# Altium schematic symbol library SEMATIK_LIB.SchLib: 632 symbols (part 14 of 21)
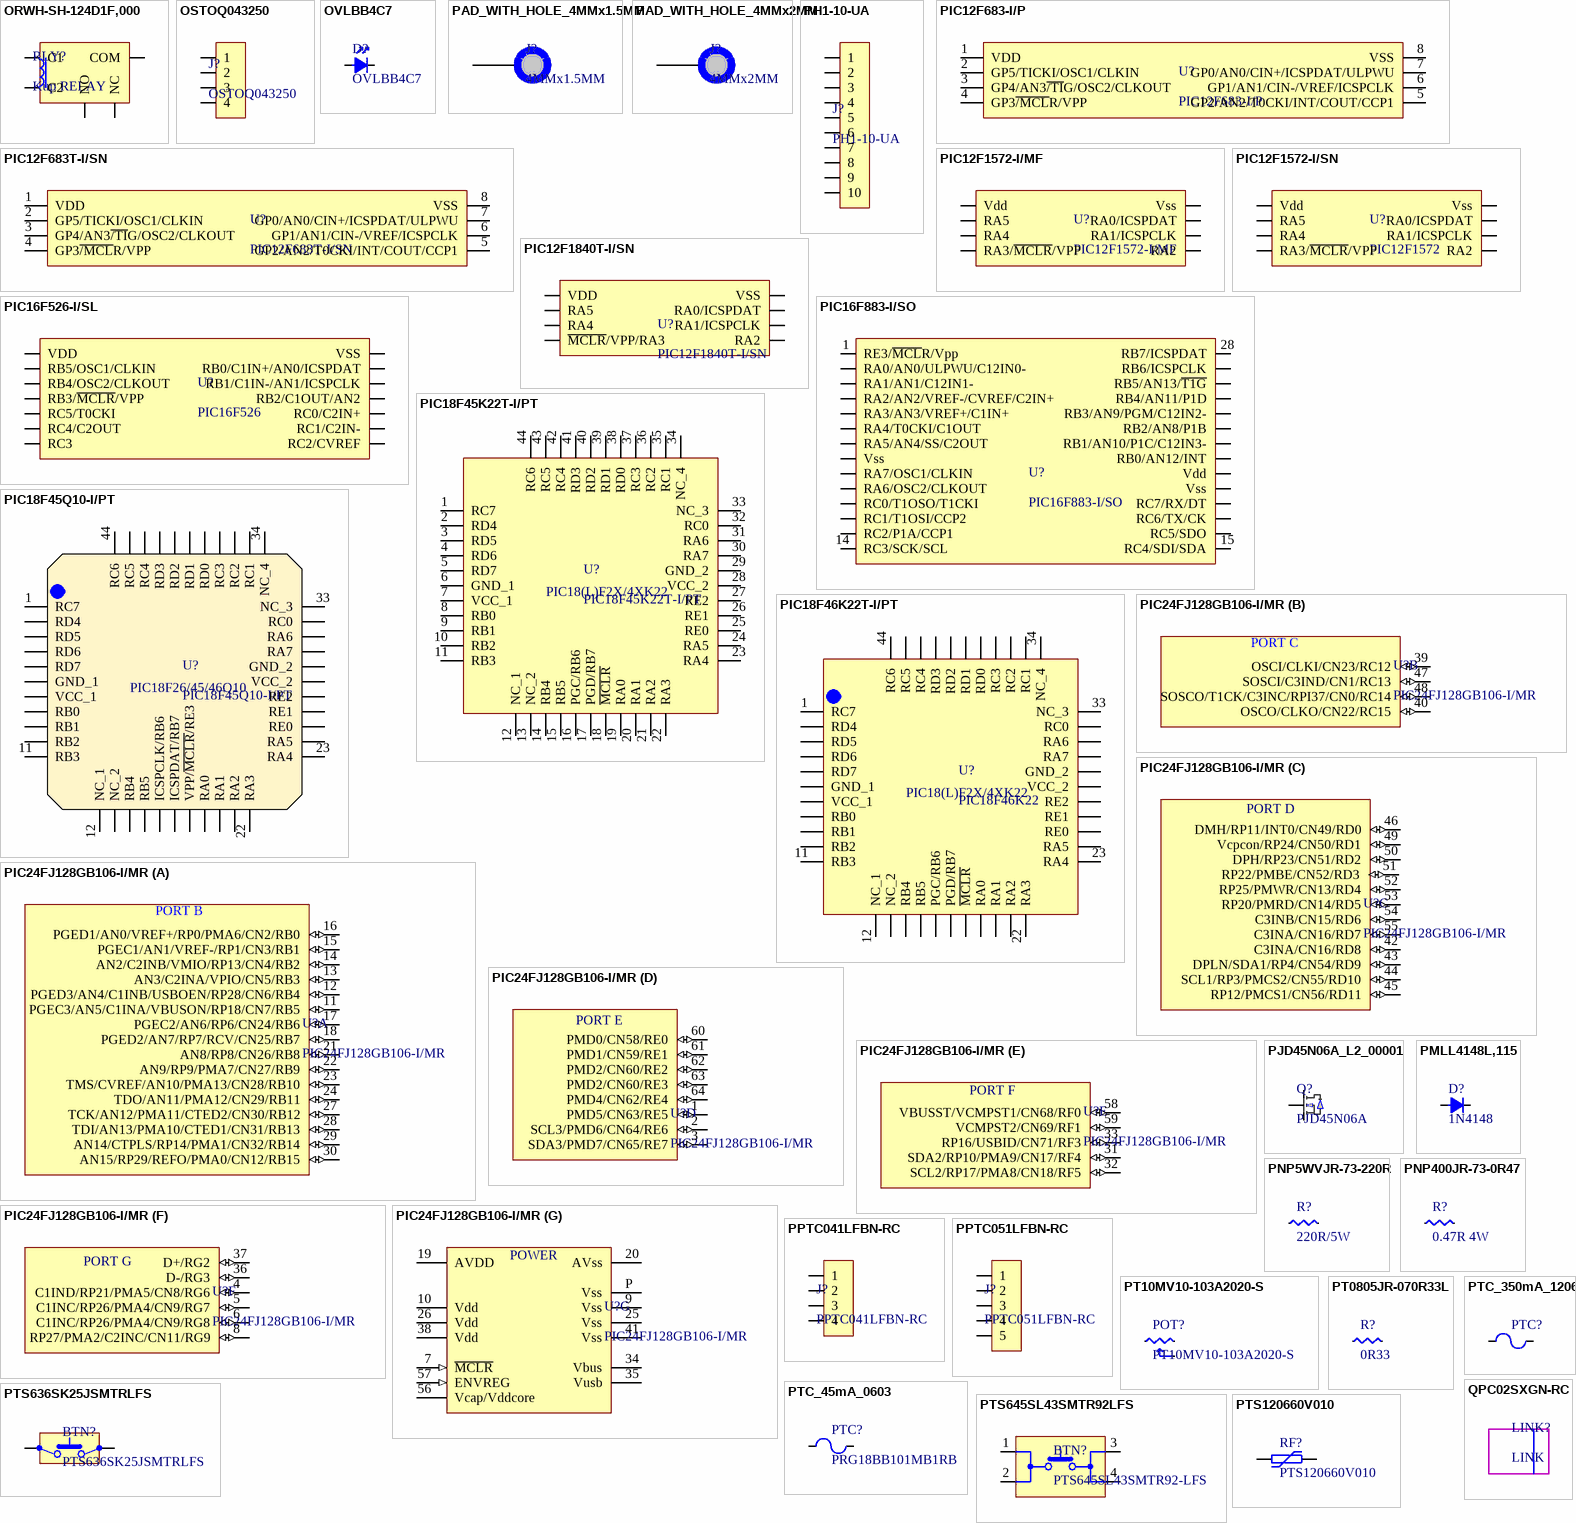
[diagram p29: symbols ORWH-SH-124D1F,000 to QPC02SXGN-RC]

## PTC_350mA_1206
designator PTC?, comment 0ZCJ0035FF2G  (value not drawn)
PTC RESET FUSE 16V 350MA 1206; Manufacturer: Bel Fuse Inc.; Approvals: cURus, TUV; Supplier 1: Digi-Key; Manufacturer Part Number: 0ZCJ0035FF2G; RoHS: RoHS Compliant; Category: Circuit Protection; Stock 1: 71744; Pricing 1: 1=0.13, 5=0.13, 10=0.125, 50=0.1114, 100=0.1037, 250=0.09216, 500=0.0768, 1000=0.07296 (USD); Packaging: Cut Tape (CT); Part Status: Active; Type: Polymeric; Voltage - Max: 16V; Operating Temperature: -40°C ~ 85°C; Ratings: -; Mounting Type: Surface Mount; Package / Case: 1206 (3216 Metric), Concave; Size / Dimension: 0.128" L x 0.065" W (3.25mm x 1.65mm); Height - Seated (Max): -; Thickness (Max): 0.030" (0.75mm); Lead Spacing: -; ComponentLink1URL: https://www.belfuse.com/resources/CircuitProtection/datasheets/0ZCJ%20Nov2016.pdf; ComponentLink1Description: https://www.belfuse.com/resources/CircuitProtection/datasheets/0ZCJ%20Nov2016.pdf; Supplier Part Number 1: 507-1800-1-ND
footprint PTC_1206
pins: 1, 2

## PTS636SK25JSMTRLFS
designator BTN?
SWITCH TACTILE SPST-NO 2.5mm 6.0x3.5 250gf; Manufacturer: ITT C&K; Supplier 1: Digi-Key; Manufacturer Part Number: PTS636SK25JSMTRLFS; Stock 1: 0; RoHS: No; Supplier Part Number 1: CKN12326-6-ND
footprint Tact_Switch_smd_6x3.5x2.5
pins: 1, 2

## PTS645SL43SMTR92LFS
designator BTN?, comment PTS645SL43SMTR92-LFS
Switch Tactile N.O. SPST Round Button Gull Wing 0.05A 12VDC 100000Cycles 1.27N SMD T/R; Manufacturer 1: ITT C&K; Manufacturer Part Number 1: PTS645SL43SMTR92LFS; Actuator Material: Nylon,Polyamide; Max Voltage Rating (DC): 12V; Contact Resistance: 100mR; Max Current Rating: 50mA; Illumination Type: Non-Illuminated; Switch Function: Off-Mom; Actuator Type: Standard; Actuator Length: 0.85mm; Supplier 1: Digi-Key; Description 1: Switch Tactile N.O. SPST Round Button Gull Wing 0.05A 12VDC 100000Cycles 1.27N SMD T/R; Stock 1: 4489; Pricing 1: 1=0.31, 10=0.3, 25=0.29, 50=0.2796, 100=0.2641, 250=0.2486, 500=0.23822 (USD); Mount: Surface Mount; Contact Material: Bronze,Brass,Silver; Contact Plating: Silver; Mechanical Life: 100000Cycles; Color: Black; Min Operating Temperature: -20°C; Max Operating Temperature: 60°C; Throw Configuration: SPST; Operating Force: 1.27N; Packaging: Tape and Reel; Termination: Gull Wing; Voltage Rating (DC): 12V; Package Quantity: 1000; Current Rating: 50mA; Orientation: Straight; Length: 6mm; Depth: 9mm; Lead Free: Lead Free; ComponentLink1URL: https://www.verical.com/server-webapp/html/getDatasheet?partID=774114&src-supplier=Verical; ComponentLink1Description: https://www.verical.com/server-webapp/html/getDatasheet?partID=774114&src-supplier=Verical; Supplier Part Number 1: CKN10880CT-ND
footprint Tact_Switch_smd_6x6x4.3mm
footprint Tact_Switch_smd_(6x6x4.3mm)+(12x12x4.3mm)
pins: 1, 2, 3, 4

## PTS120660V010
designator RF?
PTC RESET FUSE 60V 100MA 1206; Manufacturer: Eaton; Approvals: TUV, cULus; Max Current Rating: 100A; Power Dissipation: 400mW; Value: 15Ω; Time to Trip: 1s; Trip Current: 250mA; Supplier: Farnell; Supplier Part Number: 4004084; Manufacturer Part Number: PTS120660V010; RoHS: Compliant; Category: PTC Resettable Fuses; Stock: 4467; Pricing: 1=0,351, 10=0,331, 25=0,309, 50=0,3, 100=0,282, 250=0,256, 500=0,222, 1000=0,212 (EUR); Case/Package: 1206; Case Code (Imperial): 1206; Case Code (Metric): 3216; Current Rating: 100mA; Height: 900µm; Hold Current: 100mA; Length: 3.5mm; Lifecycle Status: Production; Max Operating Temperature: 85°C; Max Supply Voltage (DC): 60V; Max Voltage Rating (DC): 60V; Min Operating Temperature: -40°C; Mounting Technology: Surface Mount; Number of Terminals: 2; Operating Supply Voltage: 60V; Packaging: Cut Tape; Radiation Hardening: No; REACH SVHC: Yes; Schedule B: 8536100040, 8536100040|8536100040|8536100040|8536100040|8536100040; Termination: SMD/SMT; Voltage Rating (DC): 60V; Weight: 453.59237mg; Width: 1.8mm; ComponentLink1URL: https://datasheet.octopart.com:443/PTS120660V010-Cooper-Bussmann-datasheet-155829713.pdf?src-supplier=IHS; ComponentLink1Description: https://datasheet.octopart.com:443/PTS120660V010-Cooper-Bussmann-datasheet-155829713.pdf?src-supplier=IHS; ComponentLink2URL: https://datasheet.octopart.com:443/PTS120660V010-Eaton-datasheet-83967986.pdf?src-supplier=Farnell; ComponentLink2Description: https://datasheet.octopart.com:443/PTS120660V010-Eaton-datasheet-83967986.pdf?src-supplier=Farnell; ComponentLink3URL: https://datasheet.octopart.com:443/PTS120660V010-Eaton-datasheet-137317964.pdf?src-supplier=Sager+Electronics; ComponentLink3Description: https://datasheet.octopart.com:443/PTS120660V010-Eaton-datasheet-137317964.pdf?src-supplier=Sager+Electronics; ComponentLink4URL: https://datasheet.octopart.com:443/PTS120660V010-Eaton-datasheet-11745732.pdf?src-supplier=Electro+Sonic; ComponentLink4Description: https://datasheet.octopart.com:443/PTS120660V010-Eaton-datasheet-11745732.pdf?src-supplier=Electro+Sonic; ComponentLink5URL: https://datasheet.octopart.com:443/PTS120660V010-Eaton-datasheet-188866676.pdf?src-supplier=TME; ComponentLink5Description: https://datasheet.octopart.com:443/PTS120660V010-Eaton-datasheet-188866676.pdf?src-supplier=TME; ComponentLink6URL: https://datasheet.octopart.com:443/PTS120660V010-Cooper-datasheet-12529620.pdf?src-supplier=Newark; ComponentLink6Description: https://datasheet.octopart.com:443/PTS120660V010-Cooper-datasheet-12529620.pdf?src-supplier=Newark
footprint PTC_1206
pins: 1, 2

## QPC02SXGN-RC
designator LINK?, comment LINK  (mechanical)
CONN JUMPER SHORTING .100" GOLD; Manufacturer: Sullins Connector Solutions; Manufacturer Part Number: QPC02SXGN-RC; Gender: Female Sockets; Number of Positions or Pins (Grid): 2 (1 x 2); Pitch: 0.100" (2.54mm); Supplier 1: Digi-Key; RoHS: RoHS Compliant; Category: Connectors, Interconnects; Stock 1: 156596; Pricing 1: 1=0.1, 10=0.059, 25=0.044, 50=0.0378, 100=0.0365, 250=0.03152, 500=0.03024, 1000=0.02646, 2500=0.02394 (USD); Packaging: Bulk; Part Status: Active; Type: Open Top; Height: 0.235" (5.97mm); Contact Finish: Gold; Contact Finish Thickness: Flash; Color: Black; ComponentLink1URL: http://www.sullinscorp.com/drawings/284_SXGN_11510.pdf; ComponentLink1Description: http://www.sullinscorp.com/drawings/284_SXGN_11510.pdf; Supplier Part Number 1: S9337-ND

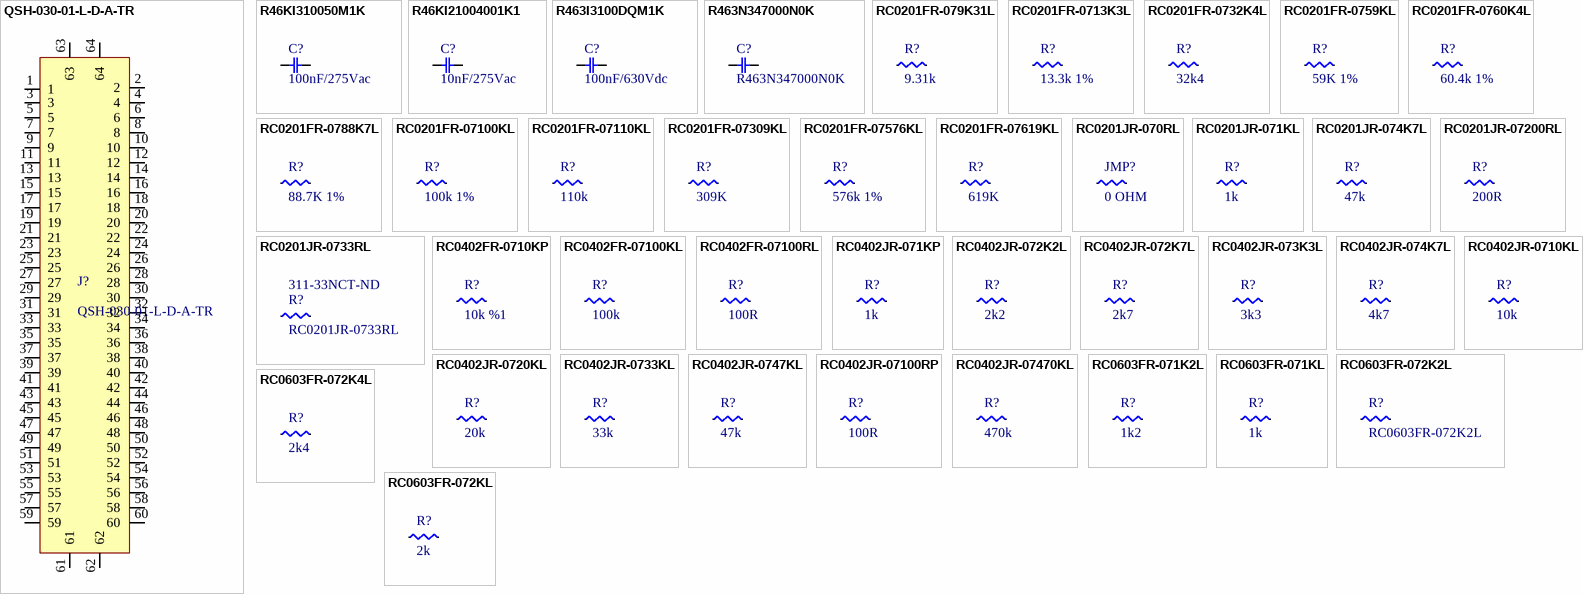
[diagram p11: symbols QSH-030-01-L-D-A-TR to RC0603FR-072KL]

## QSH-030-01-L-D-A-TR
designator J?
Conn Micro High Speed Socket Strip SKT 60 POS 0.5mm Solder ST SMD T/R; Manufacturer: Samtec; Max Voltage Rating (AC): 125V; Number of Contacts: 60; Gender: Female; Supplier 1: Digi-Key; Manufacturer Part Number: QSH-030-01-L-D-A-TR; Stock 1: 222; Pricing 1: 1=11.52, 10=10.472, 25=10.2104, 50=9.4248, 100=8.9012, 250=8.1158 (USD); Contact Plating: Gold; Contact Material: Bronze; Housing Color: Black; Housing Material: Polymer; Min Operating Temperature: -55°C; Max Operating Temperature: 125°C; Number of Rows: 2; Packaging: Tape and Reel; Termination: Solder; Orientation: Straight; Voltage Rating (AC): 125V; Length: 21.27mm; Pitch: 0.5mm; Depth: 7.49mm; Radiation Hardening: No; Lead Free: Lead Free; ComponentLink1URL: http://www.samtec.com/ftppub/pdf/QSH.PDF?src-supplier=Avnet+Europe; ComponentLink1Description: http://www.samtec.com/ftppub/pdf/QSH.PDF?src-supplier=Avnet+Europe; ComponentLink2URL: https://www.samtec.com/ftppub/pdf/QSH.PDF?src-supplier=Avnet; ComponentLink2Description: https://www.samtec.com/ftppub/pdf/QSH.PDF?src-supplier=Avnet; Supplier Part Number 1: SAM14239DKR-ND
pins: 1, 2, 3, 4, 5, 6, 7, 8, 9, 10, 11, 12, 13, 14, 15, 16, 17, 18, 19, 20, 21, 22, 23, 24, 25, 26, 27, 28, 29, 30, 31, 32, 33, 34, 35, 36, 37, 38, 39, 40, 41, 42, 43, 44, 45, 46, 47, 48, 49, 50, 51, 52, 53, 54, 55, 56, 57, 58, 59, 60, 61, 62, 63, 64

## R46KI310050M1K
designator C?, comment 100nF/275Vac
CAP FILM nF 100 560VDC 275VAC 10%  RADIAL; Manufacturer 1: Kemet Arcotronics; Manufacturer Part Number 1: R46KI310050M1K; Description 1: KEMET - R46KI310050M1K - CAP, 0.1µF, 10%, PP, RADIAL; Dielectric Material: PP; Capacitance: 100nF; Voltage Rating (AC): 275V; Voltage Rating (DC): 560V; Lead Diameter: 0.6mm; Lead Length: 25mm; Supplier 1: Digi-Key; Stock 1: 156403; Pricing 1: 1=0.49, 10=0.343, 100=0.2058, 500=0.15436, 1000=0.13034, 2500=0.12348, 5000=0.11662 (USD); Mount: Through Hole; Case/Package: Radial; Contact Plating: Tin; Min Operating Temperature: -40°C; Max Operating Temperature: 110°C; Tolerance: 10%; Dielectric: PP; Termination: Radial; Packaging: Bulk; Package Quantity: 1000; Length: 18mm; Height: 5mm; Lead Pitch: 15mm; Depth: 5mm; Width: 11mm; Height - Seated (Max): 0.433inch; Radiation Hardening: No; REACH SVHC: No SVHC; Lead Free: Lead Free; ComponentLink1URL: http://www.farnell.com/datasheets/87388.pdf?src-supplier=Element14; ComponentLink1Description: http://www.farnell.com/datasheets/87388.pdf?src-supplier=Element14; Supplier Part Number 1: 399-9651-ND
footprint CAP_RADIAL_5.2x18x11.1_15MM
pins: 1, 2

## R46KI21004001K1
designator C?, comment 10nF/275Vac
CAP FILM nF 10 560VDC/275VAC 10%  PP  (18 X 5 X 11mm) Radial 15mm 110°C Bulk; Manufacturer 1: KEMET; Manufacturer Part Number 1: R46KI21004001K1; Description 1: Cap Film 0.01uF 560VDC/275VAC PP 10% (18 X 5 X 11mm) Radial 15mm 110°C Bulk; Capacitance: 10nF; Voltage Rating (DC): 560V; Voltage Rating (AC): 275V; Lead Diameter: 0.6mm; Supplier 1: Digi-Key; Stock 1: 0; Mount: Through Hole; Case/Package: Radial; Dielectric Material: PP; Min Operating Temperature: -40°C; Max Operating Temperature: 125°C; Package Quantity: 1000; Packaging: Bulk; Dielectric: PP; Termination: PC Pins; Tolerance: 10%; Length: 0.709inch; Height: 5mm; Width: 0.197inch; Height - Seated (Max): 0.437inch; Lead Pitch: 0.591inch; ComponentLink1URL: http://www.mouser.com/ds/2/212/KEM_F3093_R46_X2_275_110C-1104424.pdf?src-supplier=Mouser; ComponentLink1Description: http://www.mouser.com/ds/2/212/KEM_F3093_R46_X2_275_110C-1104424.pdf?src-supplier=Mouser; Supplier Part Number 1: 399-11811-ND
footprint RADIAL(15MM_18x5)FILMCAPASITOR
pins: 1, 2

## R463I3100DQM1K
designator C?, comment 100nF/630Vdc
CAP FILM nF 100 20% 630VDC RADIAL; Manufacturer: KEMET; Manufacturer Part Number: R463I3100DQM1K; Supplier 1: Newark; Stock 1: 0; Pricing 1: 1600 = 0,20300, 3200 = 0,17700, 4800 = 0,15800, 8000 = 0,14500, 16000 = 0,13200 (USD); RoHS: No; Supplier Part Number 1: 91AC2158
footprint CAP_RADIAL_5x18x11_15MM
pins: 1, 2

## R463N347000N0K
designator C?
CAP FILM nF 470 630VDC 10% RAD; Manufacturer 1: KEMET; Description 1: CAP FILM 0.47UF 10% 630VDC RAD; Dielectric Material: PP; Capacitance: 470nF; Voltage Rating (AC): 310V; Voltage Rating (DC): 630V; Lead/Base Style: Straight; Lead Diameter: 0.8mm; Supplier 1: Digi-Key; Manufacturer Part Number 1: R463N347000N0K; Stock 1: 7005; Pricing 1: 1=0.76, 10=0.562, 100=0.3857, 500=0.30534, 1000=0.25712, 2500=0.24105, 5000=0.22498 (USD); Mount: Through Hole; Case/Package: Radial; Number of Pins: 2; Min Operating Temperature: -40°C; Max Operating Temperature: 110°C; Package Quantity: 700; Tolerance: 10%; Packaging: Bulk; Dielectric: PP; Termination: PC Pins; Length: 1.043inch; Height: 7mm; Width: 0.276inch; Height - Seated (Max): 0.634inch; Lead Pitch: 0.886inch; Lead Free: Lead Free; ComponentLink1URL: http://www.mouser.com/ds/2/212/KEM_F3095_R46_X2_310_110C-1104274.pdf?src-supplier=Mouser; ComponentLink1Description: http://www.mouser.com/ds/2/212/KEM_F3095_R46_X2_310_110C-1104274.pdf?src-supplier=Mouser; Supplier Part Number 1: 399-5985-ND
footprint RADIAL(22.5MM_26.5x7)FILMCAPASITOR
pins: 1, 2

## RC0201FR-079K31L
designator R?, comment 9.31k
RES SMD 9.31K OHM 1% 1/20W 0201; Manufacturer: Yageo; Manufacturer Part Number: RC0201FR-079K31L; Max Power Dissipation: 50mW; Temperature Coefficient: 200ppm/°C; Resistance: 9.31kR; Supplier 1: Digi-Key; Stock 1: 14520; Pricing 1: 1 = 0,10000, 10 = 0,04000, 100 = 0,01650, 1000 = 0,00739, 2500 = 0,00642, 5000 = 0,00530 (USD); RoHS: Yes; Case/Package: 0201; Case Code (Imperial): 0201; Case Code (Metric): 0603; Min Operating Temperature: -55°C; Max Operating Temperature: 125°C; Tolerance: 1%; Packaging: Tape and Reel; Composition: Thick Film; Number of Terminations: 2; Features: Moisture Resistant; Length: 0.024inch; Height: 0.01inch; Width: 0.012inch; ComponentLink1URL: http://www.yageo.com.tw/exep/pages/download/literatures/PYu-R_INT-thick_7.pdf?src-supplier=Digi-Key; ComponentLink1Description: http://www.yageo.com.tw/exep/pages/download/literatures/PYu-R_INT-thick_7.pdf?src-supplier=Digi-Key; ComponentLink2URL: http://www.yageo.com/documents/recent/PYu-RC_Group_51_RoHS_L_9.pdf?src-supplier=Digi-Key; ComponentLink2Description: http://www.yageo.com/documents/recent/PYu-RC_Group_51_RoHS_L_9.pdf?src-supplier=Digi-Key; Supplier Part Number 1: YAG2858CT-ND
footprint R_0201_NOSILK
pins: 1, 2

## RC0201FR-0713K3L
designator R?, comment 13.3k 1%
RES SMD 13.3K OHM 1% 1/20W 0201; Manufacturer: Yageo; Manufacturer Part Number: RC0201FR-0713K3L; Max Power Dissipation: 50mW; Temperature Coefficient: 200ppm/°C; Resistance: 13.3kR; Supplier 1: Digi-Key; Stock 1: 4069; Pricing 1: 1 = 0,10000, 10 = 0,04000, 100 = 0,01650, 1000 = 0,00739, 2500 = 0,00642, 5000 = 0,00530 (USD); RoHS: Yes; Case/Package: 0201; Case Code (Metric): 0603; Case Code (Imperial): 0201; Min Operating Temperature: -55°C; Max Operating Temperature: 125°C; Features: Moisture Resistant; Composition: Thick Film; Number of Terminations: 2; Military Standard: Not; Tolerance: 1%; Packaging: Tape and Reel; Length: 0.024inch; Height: 0.01inch; Width: 0.012inch; Depth: 0.3mm; ComponentLink1URL: http://components.arrow.com/part/dataview/0323_03291769?src-supplier=Arrow+Europe; ComponentLink1Description: http://components.arrow.com/part/dataview/0323_03291769?src-supplier=Arrow+Europe; ComponentLink2URL: http://www.yageo.com/documents/recent/PYu-RC_Group_51_RoHS_L_9.pdf?src-supplier=Digi-Key; ComponentLink2Description: http://www.yageo.com/documents/recent/PYu-RC_Group_51_RoHS_L_9.pdf?src-supplier=Digi-Key; ComponentLink3URL: http://www.yageo.com.tw/exep/pages/download/literatures/PYu-R_INT-thick_7.pdf?src-supplier=Digi-Key; ComponentLink3Description: http://www.yageo.com.tw/exep/pages/download/literatures/PYu-R_INT-thick_7.pdf?src-supplier=Digi-Key; Supplier Part Number 1: YAG2399CT-ND
footprint R_0201_NOSILK
pins: 1, 2

## RC0201FR-0732K4L
designator R?, comment 32k4
RES SMD 32.4K OHM 1% 1/20W 0201; Manufacturer: Yageo; Manufacturer Part Number: RC0201FR-0732K4L; Power Rating: 50mW; Temperature Coefficient: 200ppm/°C; Resistance: 32.4kR; Supplier 1: Digi-Key; Stock 1: 2312; Pricing 1: 1 = 0,10000, 10 = 0,04000, 100 = 0,01650, 1000 = 0,00739, 2500 = 0,00642, 5000 = 0,00530 (USD); RoHS: Yes; Case/Package: 0201; Case Code (Metric): 0603; Case Code (Imperial): 0201; Min Operating Temperature: -55°C; Max Operating Temperature: 125°C; Number of Terminations: 2; Military Standard: Not; Max Power Dissipation: 50mW; Features: Moisture Resistant; Tolerance: 1%; Packaging: Tape and Reel; Composition: Thick Film; Length: 0.024inch; Height: 0.01inch; Width: 0.012inch; Depth: 0.3mm; Lead Free: Lead Free; ComponentLink1URL: http://components.arrow.com/part/dataview/0323_03291785?src-supplier=Arrow+Europe; ComponentLink1Description: http://components.arrow.com/part/dataview/0323_03291785?src-supplier=Arrow+Europe; ComponentLink2URL: http://www.yageo.com/documents/recent/PYu-RC_Group_51_RoHS_L_9.pdf?src-supplier=Digi-Key; ComponentLink2Description: http://www.yageo.com/documents/recent/PYu-RC_Group_51_RoHS_L_9.pdf?src-supplier=Digi-Key; ComponentLink3URL: http://www.yageo.com.tw/exep/pages/download/literatures/PYu-R_INT-thick_7.pdf?src-supplier=Digi-Key; ComponentLink3Description: http://www.yageo.com.tw/exep/pages/download/literatures/PYu-R_INT-thick_7.pdf?src-supplier=Digi-Key; Supplier Part Number 1: YAG2601CT-ND
footprint R_0201_NOSILK
pins: 1, 2

## RC0201FR-0759KL
designator R?, comment 59K 1%
RES SMD 59K OHM 1% 1/20W 0201; Manufacturer: Yageo; Manufacturer Part Number: RC0201FR-0759KL; Resistance: 59kR; Max Power Dissipation: 50mW; Temperature Coefficient: 200ppm/°C; Supplier 1: Digi-Key; Stock 1: 4243; Pricing 1: 1 = 0,10000, 10 = 0,04000, 100 = 0,01650, 1000 = 0,00739, 2500 = 0,00642, 5000 = 0,00530 (USD); RoHS: Yes; Case/Package: 0201; Case Code (Metric): 0603; Case Code (Imperial): 0201; Min Operating Temperature: -55°C; Max Operating Temperature: 125°C; Features: Moisture Resistant; Number of Terminations: 2; Military Standard: Not; Tolerance: 1%; Packaging: Tape and Reel; Composition: Thick Film; Length: 0.024inch; Height: 0.01inch; Width: 0.012inch; Depth: 0.3mm; ComponentLink1URL: http://components.arrow.com/part/dataview/0323_03318243?src-supplier=Arrow+Europe; ComponentLink1Description: http://components.arrow.com/part/dataview/0323_03318243?src-supplier=Arrow+Europe; ComponentLink2URL: http://www.yageo.com.tw/exep/pages/download/literatures/PYu-R_INT-thick_7.pdf?src-supplier=Digi-Key; ComponentLink2Description: http://www.yageo.com.tw/exep/pages/download/literatures/PYu-R_INT-thick_7.pdf?src-supplier=Digi-Key; ComponentLink3URL: http://www.yageo.com/documents/recent/PYu-RC_Group_51_RoHS_L_9.pdf?src-supplier=Digi-Key; ComponentLink3Description: http://www.yageo.com/documents/recent/PYu-RC_Group_51_RoHS_L_9.pdf?src-supplier=Digi-Key; Supplier Part Number 1: YAG2739CT-ND
footprint R_0201_NOSILK
pins: 1, 2

## RC0201FR-0760K4L
designator R?, comment 60.4k 1%
RES SMD 60.4K OHM 1% 1/20W 0201; Manufacturer: Yageo; Manufacturer Part Number: RC0201FR-0760K4L; Max Power Dissipation: 50mW; Temperature Coefficient: 200ppm/°C; Resistance: 60.4kR; Supplier 1: Digi-Key; Stock 1: 0; Pricing 1: 1 = 0,10000, 10 = 0,04000, 100 = 0,01650, 1000 = 0,00739, 2500 = 0,00642, 5000 = 0,00530 (USD); RoHS: Yes; Case/Package: 0201; Case Code (Imperial): 0201; Case Code (Metric): 0603; Min Operating Temperature: -55°C; Max Operating Temperature: 125°C; Features: Moisture Resistant; Tolerance: 1%; Packaging: Tape and Reel; Composition: Thick Film; Number of Terminations: 2; Length: 0.024inch; Height: 0.01inch; Width: 0.012inch; ComponentLink1URL: http://www.mouser.com/ds/2/447/RC0201-559633.pdf?src-supplier=Mouser; ComponentLink1Description: http://www.mouser.com/ds/2/447/RC0201-559633.pdf?src-supplier=Mouser; ComponentLink2URL: http://www.yageo.com.tw/exep/pages/download/literatures/PYu-R_INT-thick_7.pdf?src-supplier=Digi-Key; ComponentLink2Description: http://www.yageo.com.tw/exep/pages/download/literatures/PYu-R_INT-thick_7.pdf?src-supplier=Digi-Key; ComponentLink3URL: http://www.yageo.com/documents/recent/PYu-RC_Group_51_RoHS_L_9.pdf?src-supplier=Digi-Key; ComponentLink3Description: http://www.yageo.com/documents/recent/PYu-RC_Group_51_RoHS_L_9.pdf?src-supplier=Digi-Key; Supplier Part Number 1: YAG2748CT-ND
footprint R_0201_NOSILK
pins: 1, 2

## RC0201FR-0788K7L
designator R?, comment 88.7K 1%
RES SMD 88.7K OHM 1% 1/20W 0201; Manufacturer: Yageo; Manufacturer Part Number: RC0201FR-0788K7L; Max Power Dissipation: 50mW; Temperature Coefficient: 200ppm/°C; Resistance: 88.7kR; Supplier 1: Digi-Key; Stock 1: 3006; Pricing 1: 1 = 0,10000, 10 = 0,04000, 100 = 0,01650, 1000 = 0,00739, 2500 = 0,00642, 5000 = 0,00530 (USD); RoHS: Yes; Case/Package: 0201; Case Code (Imperial): 0201; Case Code (Metric): 0603; Min Operating Temperature: -55°C; Max Operating Temperature: 125°C; Features: Moisture Resistant; Packaging: Tape and Reel; Composition: Thick Film; Tolerance: 1%; Number of Terminations: 2; Length: 0.024inch; Height: 0.01inch; Width: 0.012inch; ComponentLink1URL: http://www.yageo.com.tw/exep/pages/download/literatures/PYu-R_INT-thick_7.pdf?src-supplier=Digi-Key; ComponentLink1Description: http://www.yageo.com.tw/exep/pages/download/literatures/PYu-R_INT-thick_7.pdf?src-supplier=Digi-Key; ComponentLink2URL: http://www.yageo.com/documents/recent/PYu-RC_Group_51_RoHS_L_9.pdf?src-supplier=Digi-Key; ComponentLink2Description: http://www.yageo.com/documents/recent/PYu-RC_Group_51_RoHS_L_9.pdf?src-supplier=Digi-Key; Supplier Part Number 1: YAG2829CT-ND
footprint R_0201_NOSILK
pins: 1, 2

## RC0201FR-07100KL
designator R?, comment 100k 1%
RES SMD 100K OHM 1% 1/20W 0201; Manufacturer: Yageo; Manufacturer Part Number: RC0201FR-07100KL; Resistance: 100kR; Power Rating: 50mW; Voltage Rating: 25V; Temperature Coefficient: 200ppm/°C; Supplier 1: Digi-Key; Stock 1: 3829175; Pricing 1: 10000 = 0,00419, 30000 = 0,00368 (USD); RoHS: Yes; Case/Package: 0201; Number of Pins: 2; Case Code (Imperial): 0201; Case Code (Metric): 0603; Contact Plating: Tin,Matte; Min Operating Temperature: -55°C; Max Operating Temperature: 125°C; Tolerance: 1%; Packaging: Tape and Reel; Package Quantity: 10000; Termination: SMD/SMT; Composition: Thick Film; Number of Terminations: 2; Military Standard: Not; Max Power Dissipation: 50mW; Voltage Rating (DC): 25V; Features: Moisture Resistant; Length: 0.024inch; Height: 0.01inch; Width: 0.012inch; Depth: 0.3mm; REACH SVHC: No SVHC; Lead Free: Lead Free; ComponentLink1URL: https://datasheet.ciiva.com/7660/1421516-7660806.pdf?src-supplier=Element14; ComponentLink1Description: https://datasheet.ciiva.com/7660/1421516-7660806.pdf?src-supplier=Element14; ComponentLink2URL: https://datasheet.ciiva.com/2493/pyu-r-int-thick-7-2493769.pdf?src-supplier=Digi-Key; ComponentLink2Description: https://datasheet.ciiva.com/2493/pyu-r-int-thick-7-2493769.pdf?src-supplier=Digi-Key; ComponentLink3URL: https://datasheet.ciiva.com/2493/pyu-r-int-thick-7-2493770.pdf?src-supplier=Digi-Key; ComponentLink3Description: https://datasheet.ciiva.com/2493/pyu-r-int-thick-7-2493770.pdf?src-supplier=Digi-Key; ComponentLink4URL: https://datasheet.ciiva.com/26829/getdatasheetpartid-420441-26829850.pdf?src-supplier=Verical; ComponentLink4Description: https://datasheet.ciiva.com/26829/getdatasheetpartid-420441-26829850.pdf?src-supplier=Verical; ComponentLink5URL: https://datasheet.ciiva.com/46391/1421516-46391338.pdf?src-supplier=Element14; ComponentLink5Description: https://datasheet.ciiva.com/46391/1421516-46391338.pdf?src-supplier=Element14; ComponentLink6URL: https://datasheet.ciiva.com/2493/pyu-r-int-thick-7-2493771.pdf?src-supplier=Digi-Key; ComponentLink6Description: https://datasheet.ciiva.com/2493/pyu-r-int-thick-7-2493771.pdf?src-supplier=Digi-Key; ComponentLink7URL: https://datasheet.ciiva.com/16855/pyu-rc0201-51-rohs-l-8-16855774.pdf?src-supplier=Avnet+Europe; ComponentLink7Description: https://datasheet.ciiva.com/16855/pyu-rc0201-51-rohs-l-8-16855774.pdf?src-supplier=Avnet+Europe; ComponentLink8URL: https://datasheet.ciiva.com/22698/1563626-22698495.pdf?src-supplier=Element14; ComponentLink8Description: https://datasheet.ciiva.com/22698/1563626-22698495.pdf?src-supplier=Element14; Supplier Part Number 1: 311-100KMTR-ND
footprint R_0201
footprint R_0201_NOSILK
pins: 1, 2

## RC0201FR-07110KL
designator R?, comment 110k
RES SMD 110K OHM 1% 1/20W 0201; Manufacturer: Yageo; Manufacturer Part Number: RC0201FR-07110KL; Power Rating: 50mW; Resistance: 110kR; Voltage Rating: 25V; Temperature Coefficient: 200ppm/°C; Supplier 1: Digi-Key; Stock 1: 94173; Pricing 1: 1 = 0,10000, 10 = 0,04000, 100 = 0,01650, 1000 = 0,00739, 2500 = 0,00642, 5000 = 0,00530 (USD); RoHS: Yes; Case/Package: 0201; Case Code (Imperial): 0201; Case Code (Metric): 0603; Min Operating Temperature: -55°C; Max Operating Temperature: 125°C; Packaging: Tape and Reel; Tolerance: 1%; Composition: Thick Film; Termination: SMD/SMT; Number of Terminations: 2; Military Standard: Not; Max Power Dissipation: 50mW; Features: Moisture Resistant; Length: 0.6mm; Height: 0.01inch; Width: 0.3mm; Depth: 0.3mm; ComponentLink1URL: http://www.mouser.com/ds/2/447/RC0201-559633.pdf?src-supplier=Mouser; ComponentLink1Description: http://www.mouser.com/ds/2/447/RC0201-559633.pdf?src-supplier=Mouser; ComponentLink2URL: http://components.arrow.com/part/dataview/0323_03291761?src-supplier=Arrow+Europe; ComponentLink2Description: http://components.arrow.com/part/dataview/0323_03291761?src-supplier=Arrow+Europe; ComponentLink3URL: http://www.yageo.com/documents/recent/PYu-RC_Group_51_RoHS_L_9.pdf?src-supplier=Digi-Key; ComponentLink3Description: http://www.yageo.com/documents/recent/PYu-RC_Group_51_RoHS_L_9.pdf?src-supplier=Digi-Key; ComponentLink4URL: http://www.yageo.com.tw/exep/pages/download/literatures/PYu-R_INT-thick_7.pdf?src-supplier=Digi-Key; ComponentLink4Description: http://www.yageo.com.tw/exep/pages/download/literatures/PYu-R_INT-thick_7.pdf?src-supplier=Digi-Key; Supplier Part Number 1: YAG2378CT-ND
footprint R_0201_NOSILK
pins: 1, 2

## RC0201FR-07309KL
designator R?, comment 309K
RES SMD 309K OHM 1% 1/20W 0201; Manufacturer: Yageo; Manufacturer Part Number: RC0201FR-07309KL; Resistance: 309kR; Max Power Dissipation: 50mW; Temperature Coefficient: 200ppm/°C; Supplier 1: Digi-Key; Stock 1: 9885; Pricing 1: 1 = 0,10000, 10 = 0,04000, 100 = 0,01650, 1000 = 0,00739, 2500 = 0,00642, 5000 = 0,00530 (USD); RoHS: Yes; Case/Package: 0201; Case Code (Metric): 0603; Case Code (Imperial): 0201; Min Operating Temperature: -55°C; Max Operating Temperature: 125°C; Tolerance: 1%; Packaging: Tape and Reel; Composition: Thick Film; Number of Terminations: 2; Features: Moisture Resistant; Length: 0.024inch; Height: 0.01inch; Width: 0.012inch; ComponentLink1URL: http://www.mouser.com/ds/2/447/RC0201-559633.pdf?src-supplier=Mouser; ComponentLink1Description: http://www.mouser.com/ds/2/447/RC0201-559633.pdf?src-supplier=Mouser; ComponentLink2URL: http://www.yageo.com.tw/exep/pages/download/literatures/PYu-R_INT-thick_7.pdf?src-supplier=Digi-Key; ComponentLink2Description: http://www.yageo.com.tw/exep/pages/download/literatures/PYu-R_INT-thick_7.pdf?src-supplier=Digi-Key; ComponentLink3URL: http://www.yageo.com/documents/recent/PYu-RC_Group_51_RoHS_L_10.pdf?src-supplier=Digi-Key; ComponentLink3Description: http://www.yageo.com/documents/recent/PYu-RC_Group_51_RoHS_L_10.pdf?src-supplier=Digi-Key; Supplier Part Number 1: YAG2588CT-ND
footprint R_0201_NOSILK
pins: 1, 2

## RC0201FR-07576KL
designator R?, comment 576k 1%
RES SMD 576K OHM 1% 1/20W 0201; Manufacturer: Yageo; Manufacturer Part Number: RC0201FR-07576KL; Max Power Dissipation: 50mW; Temperature Coefficient: 200ppm/°C; Resistance: 576kR; Supplier 1: Digi-Key; Stock 1: 17175; Pricing 1: 1 = 0,10000, 10 = 0,04000, 100 = 0,01650, 1000 = 0,00739, 2500 = 0,00642, 5000 = 0,00530 (USD); RoHS: Yes; Case/Package: 0201; Case Code (Imperial): 0201; Case Code (Metric): 0603; Min Operating Temperature: -55°C; Max Operating Temperature: 125°C; Tolerance: 1%; Packaging: Tape and Reel; Composition: Thick Film; Number of Terminations: 2; Features: Moisture Resistant; Length: 0.024inch; Height: 0.01inch; Width: 0.012inch; ComponentLink1URL: http://www.yageo.com.tw/exep/pages/download/literatures/PYu-R_INT-thick_7.pdf?src-supplier=Digi-Key; ComponentLink1Description: http://www.yageo.com.tw/exep/pages/download/literatures/PYu-R_INT-thick_7.pdf?src-supplier=Digi-Key; ComponentLink2URL: http://www.yageo.com/documents/recent/PYu-RC_Group_51_RoHS_L_9.pdf?src-supplier=Digi-Key; ComponentLink2Description: http://www.yageo.com/documents/recent/PYu-RC_Group_51_RoHS_L_9.pdf?src-supplier=Digi-Key; Supplier Part Number 1: YAG2733CT-ND
footprint R_0201_NOSILK
pins: 1, 2

## RC0201FR-07619KL
designator R?, comment 619K
RES SMD 619K OHM 1% 1/20W 0201; Manufacturer: Yageo; Manufacturer Part Number: RC0201FR-07619KL; Resistance: 619kR; Max Power Dissipation: 50mW; Temperature Coefficient: 200ppm/°C; Supplier 1: Digi-Key; Stock 1: 35270; Pricing 1: 1 = 0,10000, 10 = 0,04000, 100 = 0,01650, 1000 = 0,00739, 2500 = 0,00642, 5000 = 0,00530 (USD); RoHS: Yes; Case/Package: 0201; Case Code (Metric): 0603; Case Code (Imperial): 0201; Min Operating Temperature: -55°C; Max Operating Temperature: 125°C; Packaging: Tape and Reel; Composition: Thick Film; Number of Terminations: 2; Tolerance: 1%; Features: Moisture Resistant; Length: 0.024inch; Height: 0.01inch; Width: 0.012inch; ComponentLink1URL: http://www.yageo.com/documents/recent/PYu-RC_Group_51_RoHS_L_9.pdf?src-supplier=Digi-Key; ComponentLink1Description: http://www.yageo.com/documents/recent/PYu-RC_Group_51_RoHS_L_9.pdf?src-supplier=Digi-Key; ComponentLink2URL: http://www.yageo.com.tw/exep/pages/download/literatures/PYu-R_INT-thick_7.pdf?src-supplier=Digi-Key; ComponentLink2Description: http://www.yageo.com.tw/exep/pages/download/literatures/PYu-R_INT-thick_7.pdf?src-supplier=Digi-Key; Supplier Part Number 1: YAG2750CT-ND
footprint R_0201_NOSILK
pins: 1, 2

## RC0201JR-070RL
designator JMP?, comment 0 OHM
RES SMD 0 OHM JUMPER 1/20W 0201; Manufacturer: Yageo; Manufacturer Part Number: RC0201JR-070RL; Resistance: 0mR; Power Rating: 50mW; Tolerance: 5%; Voltage Rating: 25V; Supplier 1: Digi-Key; Stock 1: 7911403; Pricing 1: 1 = 0,10000, 10 = 0,04000, 25 = 0,02920, 50 = 0,02240, 100 = 0,01650, 250 = 0,01256, 500 = 0,01004, 1000 = 0,00739, 5000 = 0,00530 (USD); RoHS: Yes; Case/Package: 0201; Weight: 6E-06oz; Case Code (Metric): 0603; Case Code (Imperial): 0201; Contact Plating: Tin,Matte; Min Operating Temperature: -55°C; Max Operating Temperature: 125°C; Packaging: Tape and Reel; Package Quantity: 10000; Composition: Thick Film; Number of Terminations: 2; Termination: SMD/SMT; Military Standard: Not; Max Power Dissipation: 50mW; Voltage Rating (DC): 25V; Features: Moisture Resistant; Length: 0.6mm; Height: 0.01inch; Width: 0.012inch; Depth: 0.3mm; Radiation Hardening: No; REACH SVHC: Unknown; Lead Free: Lead Free; ComponentLink1URL: https://datasheet.ciiva.com/7672/1563626-7672247.pdf?src-supplier=Element14; ComponentLink1Description: https://datasheet.ciiva.com/7672/1563626-7672247.pdf?src-supplier=Element14; ComponentLink2URL: https://datasheet.ciiva.com/7660/1421516-7660808.pdf?src-supplier=Element14; ComponentLink2Description: https://datasheet.ciiva.com/7660/1421516-7660808.pdf?src-supplier=Element14; ComponentLink3URL: https://datasheet.ciiva.com/7672/1563626-7672248.pdf?src-supplier=Element14; ComponentLink3Description: https://datasheet.ciiva.com/7672/1563626-7672248.pdf?src-supplier=Element14; ComponentLink4URL: https://datasheet.ciiva.com/16855/pyu-rc0201-51-rohs-l-8-16855994.pdf?src-supplier=Avnet+Europe; ComponentLink4Description: https://datasheet.ciiva.com/16855/pyu-rc0201-51-rohs-l-8-16855994.pdf?src-supplier=Avnet+Europe; ComponentLink5URL: https://datasheet.ciiva.com/28419/pyu-rc0201-51-rohs-l-8-28419660.pdf?src-supplier=Avnet+Europe; ComponentLink5Description: https://datasheet.ciiva.com/28419/pyu-rc0201-51-rohs-l-8-28419660.pdf?src-supplier=Avnet+Europe; ComponentLink6URL: https://datasheet.ciiva.com/46391/1421516-46391340.pdf?src-supplier=Element14; ComponentLink6Description: https://datasheet.ciiva.com/46391/1421516-46391340.pdf?src-supplier=Element14; ComponentLink7URL: https://datasheet.ciiva.com/8896/pyu-rc0201-51-rohs-l-8-8896143.pdf?src-supplier=Avnet; ComponentLink7Description: https://datasheet.ciiva.com/8896/pyu-rc0201-51-rohs-l-8-8896143.pdf?src-supplier=Avnet; Supplier Part Number 1: 311-0.0NDKR-ND
footprint R_0201_NOSILK
pins: 1, 2

## RC0201JR-071KL
designator R?, comment 1k
RES SMD 1K OHM 5% 1/20W 0201; Manufacturer: Yageo; Manufacturer Part Number: RC0201JR-071KL; Voltage Rating (DC): 25V; Resistance: 1kR; Power Rating: 50mW; Temperature Coefficient: 200ppm/°C; Supplier 1: Digi-Key; Stock 1: 0; Pricing 1: 1 = 0,10000, 10 = 0,02800, 100 = 0,01150, 1000 = 0,00517, 2500 = 0,00448, 5000 = 0,00371 (USD); RoHS: Yes; Case/Package: 0201; Case Code (Imperial): 0201; Case Code (Metric): 0603; Contact Plating: Tin,Matte; Min Operating Temperature: -55°C; Max Operating Temperature: 125°C; Tolerance: 5%; Voltage Rating: 25V; Packaging: Tape and Reel; Package Quantity: 1; Termination: SMD/SMT; Composition: Thick Film; Number of Terminations: 2; Military Standard: Not; Max Power Dissipation: 50mW; Features: Moisture Resistant; Length: 0.6mm; Height: 0.01inch; Width: 0.3mm; Depth: 0.3mm; Radiation Hardening: No; Lead Free: Lead Free; REACH SVHC: No SVHC; ComponentLink1URL: https://datasheet.ciiva.com/16855/pyu-rc0201-51-rohs-l-8-16855270.pdf?src-supplier=Avnet+Europe; ComponentLink1Description: https://datasheet.ciiva.com/16855/pyu-rc0201-51-rohs-l-8-16855270.pdf?src-supplier=Avnet+Europe; ComponentLink2URL: https://datasheet.ciiva.com/7672/1563626-7672265.pdf?src-supplier=Element14; ComponentLink2Description: https://datasheet.ciiva.com/7672/1563626-7672265.pdf?src-supplier=Element14; ComponentLink3URL: https://datasheet.ciiva.com/7660/1421516-7660811.pdf?src-supplier=Element14; ComponentLink3Description: https://datasheet.ciiva.com/7660/1421516-7660811.pdf?src-supplier=Element14; ComponentLink4URL: https://datasheet.ciiva.com/46391/1421516-46391293.pdf?src-supplier=Element14; ComponentLink4Description: https://datasheet.ciiva.com/46391/1421516-46391293.pdf?src-supplier=Element14; ComponentLink5URL: https://datasheet.ciiva.com/2462/pyu-r-int-thick-7-2462830.pdf?src-supplier=Digi-Key; ComponentLink5Description: https://datasheet.ciiva.com/2462/pyu-r-int-thick-7-2462830.pdf?src-supplier=Digi-Key; ComponentLink6URL: https://datasheet.ciiva.com/2462/pyu-r-int-thick-7-2462831.pdf?src-supplier=Digi-Key; ComponentLink6Description: https://datasheet.ciiva.com/2462/pyu-r-int-thick-7-2462831.pdf?src-supplier=Digi-Key; ComponentLink7URL: https://datasheet.ciiva.com/8896/pyu-rc0201-51-rohs-l-8-8896175.pdf?src-supplier=Avnet; ComponentLink7Description: https://datasheet.ciiva.com/8896/pyu-rc0201-51-rohs-l-8-8896175.pdf?src-supplier=Avnet; ComponentLink8URL: https://datasheet.ciiva.com/28419/pyu-rc0201-51-rohs-l-8-28419638.pdf?src-supplier=Avnet+Europe; ComponentLink8Description: https://datasheet.ciiva.com/28419/pyu-rc0201-51-rohs-l-8-28419638.pdf?src-supplier=Avnet+Europe; ComponentLink9URL: https://datasheet.ciiva.com/7672/1563626-7672264.pdf?src-supplier=Element14; ComponentLink9Description: https://datasheet.ciiva.com/7672/1563626-7672264.pdf?src-supplier=Element14; ComponentLink10URL: https://datasheet.ciiva.com/2462/pyu-r-int-thick-7-2462829.pdf?src-supplier=Digi-Key; ComponentLink10Description: https://datasheet.ciiva.com/2462/pyu-r-int-thick-7-2462829.pdf?src-supplier=Digi-Key; Supplier Part Number 1: 311-1KNDKR-ND
footprint R_0201
footprint R_0201_NOSILK
pins: 1, 2

## RC0201JR-074K7L
designator R?, comment 47k
RES SMD 47K OHM 5% 1/20W 0201; Manufacturer: Yageo; Manufacturer Part Number: RC0201JR-074K7L; Resistance: 4.7kR; Power Rating: 50mW; Voltage Rating: 25V; Temperature Coefficient: 200ppm/°C; Supplier 1: Digi-Key; Stock 1: 0; Pricing 1: 1 = 0,10000, 10 = 0,02800, 100 = 0,01150, 1000 = 0,00517, 2500 = 0,00448, 5000 = 0,00371 (USD); RoHS: Yes; Case/Package: 0201; Case Code (Metric): 0603; Case Code (Imperial): 0201; Contact Plating: Tin,Matte; Min Operating Temperature: -55°C; Max Operating Temperature: 125°C; Tolerance: 5%; Packaging: Tape and Reel; Package Quantity: 10000; Composition: Thick Film; Number of Terminations: 2; Termination: SMD/SMT; Military Standard: Not; Max Power Dissipation: 50mW; Voltage Rating (DC): 25V; Features: Moisture Resistant; Length: 0.6mm; Height: 0.01inch; Width: 0.012inch; Depth: 0.3mm; Height - Seated (Max): 0.01inch; Radiation Hardening: No; REACH SVHC: Unknown; Lead Free: Lead Free; ComponentLink1URL: https://datasheet.ciiva.com/2462/pyu-r-int-thick-7-2462790.pdf?src-supplier=Digi-Key; ComponentLink1Description: https://datasheet.ciiva.com/2462/pyu-r-int-thick-7-2462790.pdf?src-supplier=Digi-Key; ComponentLink2URL: https://datasheet.ciiva.com/2462/pyu-r-int-thick-7-2462791.pdf?src-supplier=Digi-Key; ComponentLink2Description: https://datasheet.ciiva.com/2462/pyu-r-int-thick-7-2462791.pdf?src-supplier=Digi-Key; ComponentLink3URL: https://datasheet.ciiva.com/7672/1563626-7672295.pdf?src-supplier=Element14; ComponentLink3Description: https://datasheet.ciiva.com/7672/1563626-7672295.pdf?src-supplier=Element14; ComponentLink4URL: https://datasheet.ciiva.com/2462/pyu-r-int-thick-7-2462792.pdf?src-supplier=Digi-Key; ComponentLink4Description: https://datasheet.ciiva.com/2462/pyu-r-int-thick-7-2462792.pdf?src-supplier=Digi-Key; ComponentLink5URL: https://datasheet.ciiva.com/7672/1563626-7672296.pdf?src-supplier=Element14; ComponentLink5Description: https://datasheet.ciiva.com/7672/1563626-7672296.pdf?src-supplier=Element14; ComponentLink6URL: https://datasheet.ciiva.com/16855/pyu-rc0201-51-rohs-l-8-16855535.pdf?src-supplier=Avnet+Europe; ComponentLink6Description: https://datasheet.ciiva.com/16855/pyu-rc0201-51-rohs-l-8-16855535.pdf?src-supplier=Avnet+Europe; Supplier Part Number 1: 311-4.7KNCT-ND
footprint R_0201
footprint R_0201_NOSILK
pins: 1, 2

## RC0201JR-0733RL
designator R?  Supplier Part Number 1: 311-33NCT-ND
RES SMD 33 OHM 5% 0201; Manufacturer 1: Yageo; Resistance: 33R; Power Rating: 50mW; Voltage Rating (DC): 25V; Temperature Coefficient: 200ppm/°C; Supplier 1: Digi-Key; Manufacturer Part Number 1: RC0201JR-0733RL; Stock 1: 1186615; Pricing 1: 1=0.1, 10=0.03, 100=0.012, 1000=0.0054, 2500=0.00468, 5000=0.00387 (USD); Case/Package: 0201; Case Code (Imperial): 0201; Case Code (Metric): 0603; Contact Plating: Tin,Matte; Min Operating Temperature: -55°C; Max Operating Temperature: 125°C; Tolerance: 5%; Packaging: Tape and Reel; Voltage Rating: 25V; Termination: SMD/SMT; Composition: Thick Film; Military Standard: Not; Working Voltage: 25V; Number of Terminations: 2; Length: 0.6mm; Height: 0.23mm; Width: 0.3mm; Depth: 0.3mm; Radiation Hardening: No; Lead Free: Lead Free; REACH SVHC: No SVHC; ComponentLink1URL: http://www.yageo.com/documents/recent/PYu-RC_Group_51_RoHS_L_10.pdf?src-supplier=Digi-Key; ComponentLink1Description: http://www.yageo.com/documents/recent/PYu-RC_Group_51_RoHS_L_10.pdf?src-supplier=Digi-Key; ComponentLink2URL: http://www.farnell.com/datasheets/1421516.pdf?src-supplier=Element14; ComponentLink2Description: http://www.farnell.com/datasheets/1421516.pdf?src-supplier=Element14; ComponentLink3URL: http://www.yageo.com/documents/recent/PYu-RC0201_51_RoHS_L_8.pdf?src-supplier=Avnet; ComponentLink3Description: http://www.yageo.com/documents/recent/PYu-RC0201_51_RoHS_L_8.pdf?src-supplier=Avnet; ComponentLink4URL: http://www.yageo.com/documents/recent/PYu-RC0201_51_RoHS_L_8.pdf?src-supplier=Avnet+Europe; ComponentLink4Description: http://www.yageo.com/documents/recent/PYu-RC0201_51_RoHS_L_8.pdf?src-supplier=Avnet+Europe; ComponentLink5URL: http://www.farnell.com/datasheets/1563626.pdf?src-supplier=Element14; ComponentLink5Description: http://www.farnell.com/datasheets/1563626.pdf?src-supplier=Element14; ComponentLink6URL: http://www.farnell.com/datasheets/1563626.pdf?src-supplier=Farnell; ComponentLink6Description: http://www.farnell.com/datasheets/1563626.pdf?src-supplier=Farnell
pins: 1, 2

## RC0201JR-07200RL
designator R?, comment 200R
RES SMD 200 OHM 5% 1/20W 0201; Manufacturer: Yageo; Manufacturer Part Number: RC0201JR-07200RL; Max Power Dissipation: 50mW; Temperature Coefficient: 200ppm/°C; Supplier 1: Digi-Key; Stock 1: 72574; Pricing 1: 1 = 0,10000, 10 = 0,02800, 100 = 0,01150, 1000 = 0,00517, 2500 = 0,00448, 5000 = 0,00371 (USD); RoHS: Yes; Case/Package: 0201; Case Code (Metric): 0603; Case Code (Imperial): 0201; Min Operating Temperature: -55°C; Max Operating Temperature: 125°C; Features: Moisture Resistant; Resistance: 200R; Tolerance: 5%; Package Quantity: 1; Power Rating: 50mW; Packaging: Tape and Reel; Composition: Thick Film; Number of Terminations: 2; Military Standard: Not; Length: 0.024inch; Height: 0.01inch; Width: 0.012inch; Depth: 0.3mm; Lead Free: Lead Free; ComponentLink1URL: https://datasheet.ciiva.com/2522/pyu-r-int-thick-7-2522692.pdf?src-supplier=Digi-Key; ComponentLink1Description: https://datasheet.ciiva.com/2522/pyu-r-int-thick-7-2522692.pdf?src-supplier=Digi-Key; ComponentLink2URL: https://datasheet.ciiva.com/2522/pyu-r-int-thick-7-2522694.pdf?src-supplier=Digi-Key; ComponentLink2Description: https://datasheet.ciiva.com/2522/pyu-r-int-thick-7-2522694.pdf?src-supplier=Digi-Key; ComponentLink3URL: https://datasheet.ciiva.com/2522/pyu-r-int-thick-7-2522693.pdf?src-supplier=Digi-Key; ComponentLink3Description: https://datasheet.ciiva.com/2522/pyu-r-int-thick-7-2522693.pdf?src-supplier=Digi-Key; Supplier Part Number 1: 311-200NCT-ND
footprint R_0201_NOSILK
pins: 1, 2

## RC0402FR-0710KP
designator R?, comment 10k %1
RES SMD 10K OHM 1% 1/16W 0402; Manufacturer: Yageo; Manufacturer Part Number: RC0402FR-0710KP; Max Power Dissipation: 63mW; Temperature Coefficient: 150ppm/°C; Resistance: 10kR; Supplier 1: Digi-Key; Stock 1: 262739; Pricing 1: 1 = 0,10000, 10 = 0,03500, 100 = 0,01400, 1000 = 0,00631, 2500 = 0,00548, 5000 = 0,00452 (USD); RoHS: Yes; Case/Package: 0402; Case Code (Imperial): 0402; Case Code (Metric): 1005; Min Operating Temperature: -55°C; Max Operating Temperature: 155°C; Tolerance: 1%; Packaging: Tape and Reel; Composition: Thick Film; Number of Terminations: 2; Features: Moisture Resistant; Length: 0.039inch; Height: 0.016inch; Width: 0.02inch; ComponentLink1URL: http://www.yageo.com/NewPortal/yageodocoutput?fileName=/pdf/R-Chip/PYu-RC_51_RoHS_P_0.pdf&src-supplier=Digi-Key; ComponentLink1Description: http://www.yageo.com/NewPortal/yageodocoutput?fileName=/pdf/R-Chip/PYu-RC_51_RoHS_P_0.pdf&src-supplier=Digi-Key; Supplier Part Number 1: YAG1249DKR-ND; Supplier 2: Digi-Key; Stock 2: 0; Pricing 2: 1000 = 0,06696 (USD); Package Quantity: 1000; ComponentLink2URL: http://www.yageo.com/documents/recent/Yageo%20LR_PNP_2013.pdf?src-supplier=Digi-Key; ComponentLink2Description: http://www.yageo.com/documents/recent/Yageo%20LR_PNP_2013.pdf?src-supplier=Digi-Key
footprint R_0402
footprint R_0402_SHORT_SILK
pins: 1, 2

## RC0402FR-07100KL
designator R?, comment 100k
RES SMD 100K OHM 1% 1/16W 0402; Manufacturer: Yageo; Manufacturer Part Number: RC0402FR-07100KL; Power Rating: 63mW; Voltage Rating: 50V; Resistance: 100kR; Temperature Coefficient: 100ppm/°C; Supplier 1: Digi-Key; Stock 1: 14715000; Pricing 1: 10000 = 0,00163, 30000 = 0,00144 (USD); RoHS: Yes; Case/Package: 0402; Case Code (Metric): 1005; Case Code (Imperial): 0402; Min Operating Temperature: -55°C; Max Operating Temperature: 155°C; Tolerance: 1%; Packaging: Tape and Reel; Composition: Thick Film; Termination: SMD/SMT; Military Standard: Not; Number of Terminations: 2; Working Voltage: 50V; Package Quantity: 1; Max Power Dissipation: 63mW; Features: Moisture Resistant; Length: 0.039inch; Height: 0.016inch; Width: 0.02inch; Depth: 0.5mm; REACH SVHC: No SVHC; Lead Free: Lead Free; ComponentLink1URL: https://datasheet.ciiva.com/11819/0900766b80c66297-11819452.pdf?src-supplier=RSComponents; ComponentLink1Description: https://datasheet.ciiva.com/11819/0900766b80c66297-11819452.pdf?src-supplier=RSComponents; ComponentLink2URL: https://datasheet.ciiva.com/2453/pyu-r-int-thick-7-2453361.pdf?src-supplier=Digi-Key; ComponentLink2Description: https://datasheet.ciiva.com/2453/pyu-r-int-thick-7-2453361.pdf?src-supplier=Digi-Key; ComponentLink3URL: https://datasheet.ciiva.com/2453/pyu-r-int-thick-7-2453362.pdf?src-supplier=Digi-Key; ComponentLink3Description: https://datasheet.ciiva.com/2453/pyu-r-int-thick-7-2453362.pdf?src-supplier=Digi-Key; ComponentLink4URL: https://datasheet.ciiva.com/2453/pyu-r-int-thick-7-2453363.pdf?src-supplier=Digi-Key; ComponentLink4Description: https://datasheet.ciiva.com/2453/pyu-r-int-thick-7-2453363.pdf?src-supplier=Digi-Key; ComponentLink5URL: https://datasheet.ciiva.com/22747/1018594-22747509.pdf?src-supplier=Element14; ComponentLink5Description: https://datasheet.ciiva.com/22747/1018594-22747509.pdf?src-supplier=Element14; ComponentLink6URL: https://datasheet.ciiva.com/15189/getdatasheetpartid-323696-15189334.pdf?src-supplier=Verical; ComponentLink6Description: https://datasheet.ciiva.com/15189/getdatasheetpartid-323696-15189334.pdf?src-supplier=Verical; ComponentLink7URL: https://datasheet.ciiva.com/12667/pyu-rc0402-51-rohs-l-6-r-12667930.pdf?src-supplier=Mouser; ComponentLink7Description: https://datasheet.ciiva.com/12667/pyu-rc0402-51-rohs-l-6-r-12667930.pdf?src-supplier=Mouser; Supplier Part Number 1: 311-100KLRTR-ND
footprint R_0402
footprint R_0402_SHORT_SILK
pins: 1, 2

## RC0402FR-07100RL
designator R?, comment 100R
RES SMD 100 OHM 1% 1/16W 0402; Manufacturer: Yageo; Manufacturer Part Number: RC0402FR-07100RL; Power Rating: 62.5mW; Voltage Rating: 50V; Temperature Coefficient: 100ppm/°C; Supplier 1: Digi-Key; Stock 1: 17527192; Pricing 1: 1 = 0,10000, 10 = 0,01600, 100 = 0,00640, 1000 = 0,00289, 2500 = 0,00251, 5000 = 0,00207 (USD); RoHS: Yes; Case/Package: 0402; Number of Pins: 2; Case Code (Imperial): 0402; Case Code (Metric): 1005; Min Operating Temperature: -55°C; Max Operating Temperature: 155°C; Tolerance: 1%; Resistance: 100R; Packaging: Tape and Reel; Termination: SMD/SMT; Composition: Thick Film; Military Standard: Not; Voltage Rating (DC): 50V; Length: 1mm; Height: 0.32mm; Depth: 0.5mm; Width: 0.5mm; REACH SVHC: No SVHC; Lead Free: Lead Free; ComponentLink1URL: https://datasheet.ciiva.com/7849/1784430-7849810.pdf?src-supplier=Element14; ComponentLink1Description: https://datasheet.ciiva.com/7849/1784430-7849810.pdf?src-supplier=Element14; ComponentLink2URL: https://datasheet.ciiva.com/11808/0900766b80c66297-11808765.pdf?src-supplier=RSComponents; ComponentLink2Description: https://datasheet.ciiva.com/11808/0900766b80c66297-11808765.pdf?src-supplier=RSComponents; ComponentLink3URL: https://datasheet.ciiva.com/12667/pyu-rc0402-51-rohs-l-6-r-12667957.pdf?src-supplier=Mouser; ComponentLink3Description: https://datasheet.ciiva.com/12667/pyu-rc0402-51-rohs-l-6-r-12667957.pdf?src-supplier=Mouser; ComponentLink4URL: https://datasheet.ciiva.com/16740/pyu-rc0402-51-rohs-l-6-r-16740566.pdf?src-supplier=Future+Electronics; ComponentLink4Description: https://datasheet.ciiva.com/16740/pyu-rc0402-51-rohs-l-6-r-16740566.pdf?src-supplier=Future+Electronics; ComponentLink5URL: https://datasheet.ciiva.com/15189/getdatasheetpartid-329466-15189335.pdf?src-supplier=Verical; ComponentLink5Description: https://datasheet.ciiva.com/15189/getdatasheetpartid-329466-15189335.pdf?src-supplier=Verical; ComponentLink6URL: https://datasheet.ciiva.com/22747/1018594-22747511.pdf?src-supplier=Element14; ComponentLink6Description: https://datasheet.ciiva.com/22747/1018594-22747511.pdf?src-supplier=Element14; ComponentLink7URL: https://datasheet.ciiva.com/28367/1018594-28367226.pdf?src-supplier=Element14; ComponentLink7Description: https://datasheet.ciiva.com/28367/1018594-28367226.pdf?src-supplier=Element14; Supplier Part Number 1: 311-100LRCT-ND
footprint R_0402
footprint R_0402_SHORT_SILK
pins: 1, 2

## RC0402JR-071KP
designator R?, comment 1k
RES SMD 1K OHM 5% 1/16W 0402; Manufacturer: Yageo; Manufacturer Part Number: RC0402JR-071KP; Max Power Dissipation: 63mW; Temperature Coefficient: 150ppm/°C; Resistance: 1kR; Supplier 1: Digi-Key; Stock 1: 44029; Pricing 1: 1 = 0,10000, 10 = 0,02500, 100 = 0,01010, 1000 = 0,00453, 2500 = 0,00393, 5000 = 0,00325 (USD); RoHS: Yes; Case/Package: 0402; Case Code (Imperial): 0402; Case Code (Metric): 1005; Min Operating Temperature: -55°C; Max Operating Temperature: 155°C; Features: Moisture Resistant; Tolerance: 5%; Packaging: Tape and Reel; Composition: Thick Film; Number of Terminations: 2; Length: 0.039inch; Height: 0.016inch; Width: 0.02inch; ComponentLink1URL: http://www.yageo.com/NewPortal/yageodocoutput?fileName=/pdf/R-Chip/PYu-RC_51_RoHS_P_0.pdf&src-supplier=Digi-Key; ComponentLink1Description: http://www.yageo.com/NewPortal/yageodocoutput?fileName=/pdf/R-Chip/PYu-RC_51_RoHS_P_0.pdf&src-supplier=Digi-Key; Supplier Part Number 1: YAG1284CT-ND
footprint R_0402
footprint R_0402_SHORT_SILK
pins: 1, 2